# Altium schematic symbol library WCAP-ATG5_5X11.SchLib: 1 symbol
Pins are listed as number, name and electrical type; pins without a type are passive.

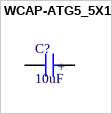
[diagram p0: symbol WCAP-ATG5_5X11]

## WCAP-ATG5_5X11
designator C?, comment 10uF
10 µF 25 V Aluminum Electrolytic Capacitors Radial, Can 2000 Hrs @ 105°C; ID: 860020472003; ComponentLink1Description: Compra; ComponentLink1URL: https://www.digikey.com/en/products/detail/w%C3%BCrth-elektronik/860020472003/5727057
footprint WCAP-ATG5_5X11(DXL)
pins: 1 POS, 2 NEG
text: +